# EAGLE library part W29EE011 (library HomeMade)
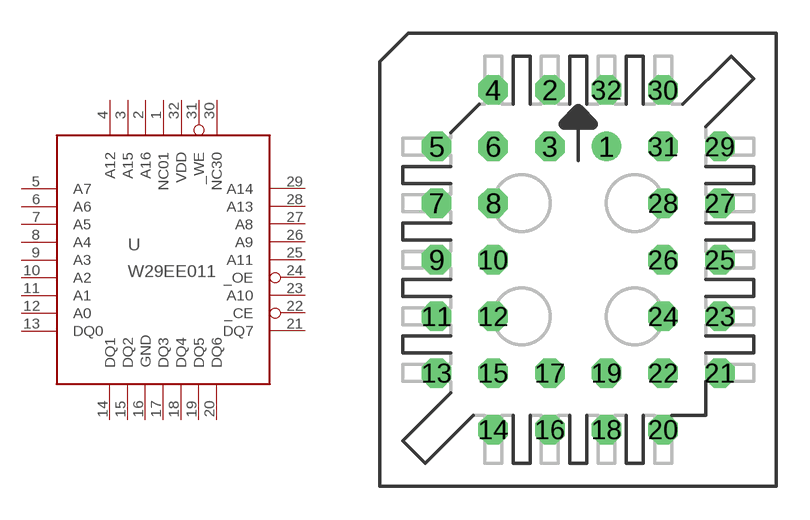
[diagram p2: symbol with the pads of PLCC32; footprint PLCC32]

Designator prefix -

## W29EE011  [PLCC32]
1  NC01  nc
2  A16  in
3  A15  in
4  A12  in
5  A7  in
6  A6  in
7  A5  in
8  A4  in
9  A3  in
10  A2  in
11  A1  in
12  A0  in
13  DQ0
14  DQ1
15  DQ2
16  GND  pwr
17  DQ3
18  DQ4
19  DQ5
20  DQ6
21  DQ7
22  _CE  in
23  A10  in
24  _OE  in
25  A11  in
26  A9  in
27  A8  in
28  A13  in
29  A14  in
30  NC30  nc
31  _WE  in
32  VDD  pwr

## Footprint PLCC32 (pad centres in mm)
drill 0.813: 1 1.27,5.08
drill 0.813 octagon: 2 -1.27,7.62; 3 -1.27,5.08; 4 -3.81,7.62; 5 -6.35,5.08; 6 -3.81,5.08; 7 -6.35,2.54; 8 -3.81,2.54; 9 -6.35,0; 10 -3.81,0; 11 -6.35,-2.54; 12 -3.81,-2.54; 13 -6.35,-5.08; 14 -3.81,-7.62; 15 -3.81,-5.08; 16 -1.27,-7.62; 17 -1.27,-5.08; 18 1.27,-7.62; 19 1.27,-5.08; 20 3.81,-7.62; 21 6.35,-5.08; 22 3.81,-5.08; 23 6.35,-2.54; 24 3.81,-2.54; 25 6.35,0; 26 3.81,0; 27 6.35,2.54; 28 3.81,2.54; 29 6.35,5.08; 30 3.81,7.62; 31 3.81,5.08; 32 1.27,7.62